# EAGLE library part DS3231MZ+ (library DS3231MZ)
Check availability <https://pricing.snapeda.com/parts/DS3231MZ%2B/Analog%20Devices/view-part?ref=eda>
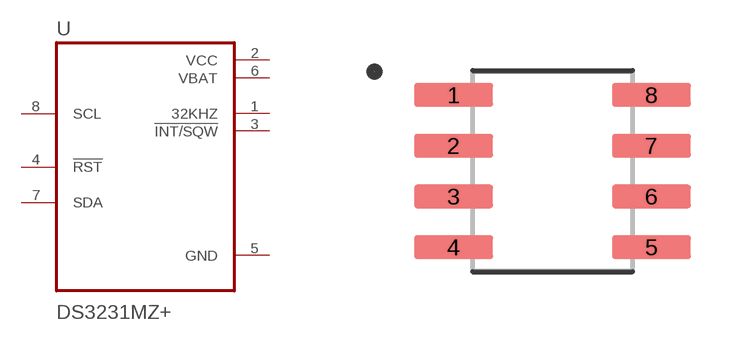
[diagram p0: symbol with the pads of SOIC127P600X175-8N; footprint SOIC127P600X175-8N]

Designator prefix U

## DS3231MZ+  [SOIC127P600X175-8N]
1  32KHZ  out
2  VCC  pwr
3  !INT/SQW  out
4  !RST
5  GND  pwr
6  VBAT  pwr
7  SDA
8  SCL  in

## Footprint SOIC127P600X175-8N (pad centres in mm)
smd 1.97 x 0.59: 1 -2.475,1.905; 2 -2.475,0.635; 3 -2.475,-0.635; 4 -2.475,-1.905; 5 2.475,-1.905; 6 2.475,-0.635; 7 2.475,0.635; 8 2.475,1.905